# EAGLE library part 32F072BDISCOVERY (library extra)
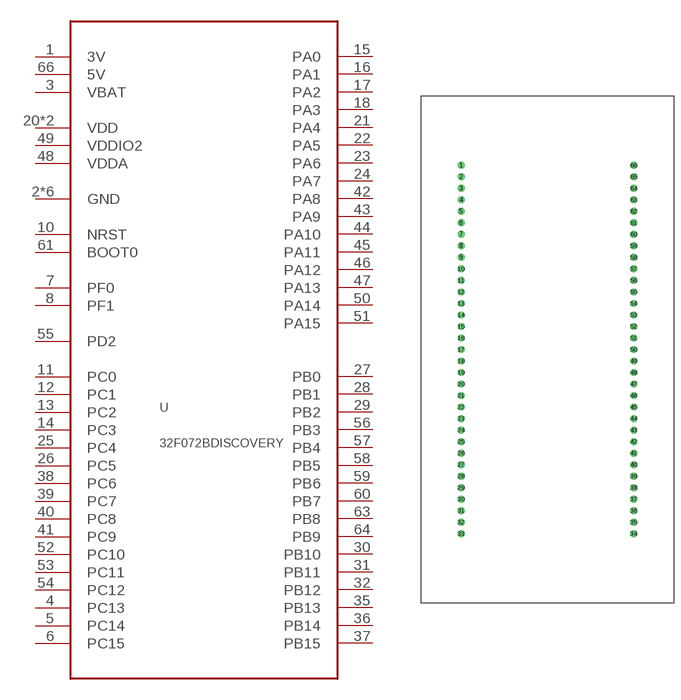
[diagram p0: symbol with the pads of 32F072BDISCOVERY; footprint 32F072BDISCOVERY]

Designator prefix U

## 32F072BDISCOVERY  [32F072BDISCOVERY]
1  3V
2  GND
3  VBAT
4  PC13
5  PC14
6  PC15
7  PF0
8  PF1
9  GND
10  NRST
11  PC0
12  PC1
13  PC2
14  PC3
15  PA0
16  PA1
17  PA2
18  PA3
19  GND
20  VDD
21  PA4
22  PA5
23  PA6
24  PA7
25  PC4
26  PC5
27  PB0
28  PB1
29  PB2
30  PB10
31  PB11
32  PB12
33  GND
34  GND
35  PB13
36  PB14
37  PB15
38  PC6
39  PC7
40  PC8
41  PC9
42  PA8
43  PA9
44  PA10
45  PA11
46  PA12
47  PA13
48  VDDA
49  VDDIO2
50  PA14
51  PA15
52  PC10
53  PC11
54  PC12
55  PD2
56  PB3
57  PB4
58  PB5
59  PB6
60  PB7
61  BOOT0
62  VDD
63  PB8
64  PB9
65  GND
66  5V

## Footprint 32F072BDISCOVERY (pad centres in mm)
drill 1.016 octagon: 1 8.89,96.52; 2 8.89,93.98; 3 8.89,91.44; 4 8.89,88.9; 5 8.89,86.36; 6 8.89,83.82; 7 8.89,81.28; 8 8.89,78.74; 9 8.89,76.2; 10 8.89,73.66; 11 8.89,71.12; 12 8.89,68.58; 13 8.89,66.04; 14 8.89,63.5; 15 8.89,60.96; 16 8.89,58.42; 17 8.89,55.88; 18 8.89,53.34; 19 8.89,50.8; 20 8.89,48.26; 21 8.89,45.72; 22 8.89,43.18; 23 8.89,40.64; 24 8.89,38.1; 25 8.89,35.56; 26 8.89,33.02; 27 8.89,30.48; 28 8.89,27.94; 29 8.89,25.4; 30 8.89,22.86; 31 8.89,20.32; 32 8.89,17.78; 33 8.89,15.24; 34 46.99,15.24; 35 46.99,17.78; 36 46.99,20.32; 37 46.99,22.86; 38 46.99,25.4; 39 46.99,27.94; 40 46.99,30.48; 41 46.99,33.02; 42 46.99,35.56; 43 46.99,38.1; 44 46.99,40.64; 45 46.99,43.18; 46 46.99,45.72; 47 46.99,48.26; 48 46.99,50.8; 49 46.99,53.34; 50 46.99,55.88; 51 46.99,58.42; 52 46.99,60.96; 53 46.99,63.5; 54 46.99,66.04; 55 46.99,68.58; 56 46.99,71.12; 57 46.99,73.66; 58 46.99,76.2; 59 46.99,78.74; 60 46.99,81.28; 61 46.99,83.82; 62 46.99,86.36; 63 46.99,88.9; 64 46.99,91.44; 65 46.99,93.98; 66 46.99,96.52